# Altium footprint library spin5v1_simple.PcbLib: 34 footprints (part 3 of 4)
Each footprint in its own frame and in the unit in brackets; x right, y up, seen from the top. Pads: shape width x height; smd on the part's side, far side on the other; paste and mask are expansions set on the pad; w line width, h text height; cw(c..) or ccw(c..) is an arc to the next point about the centre after c.
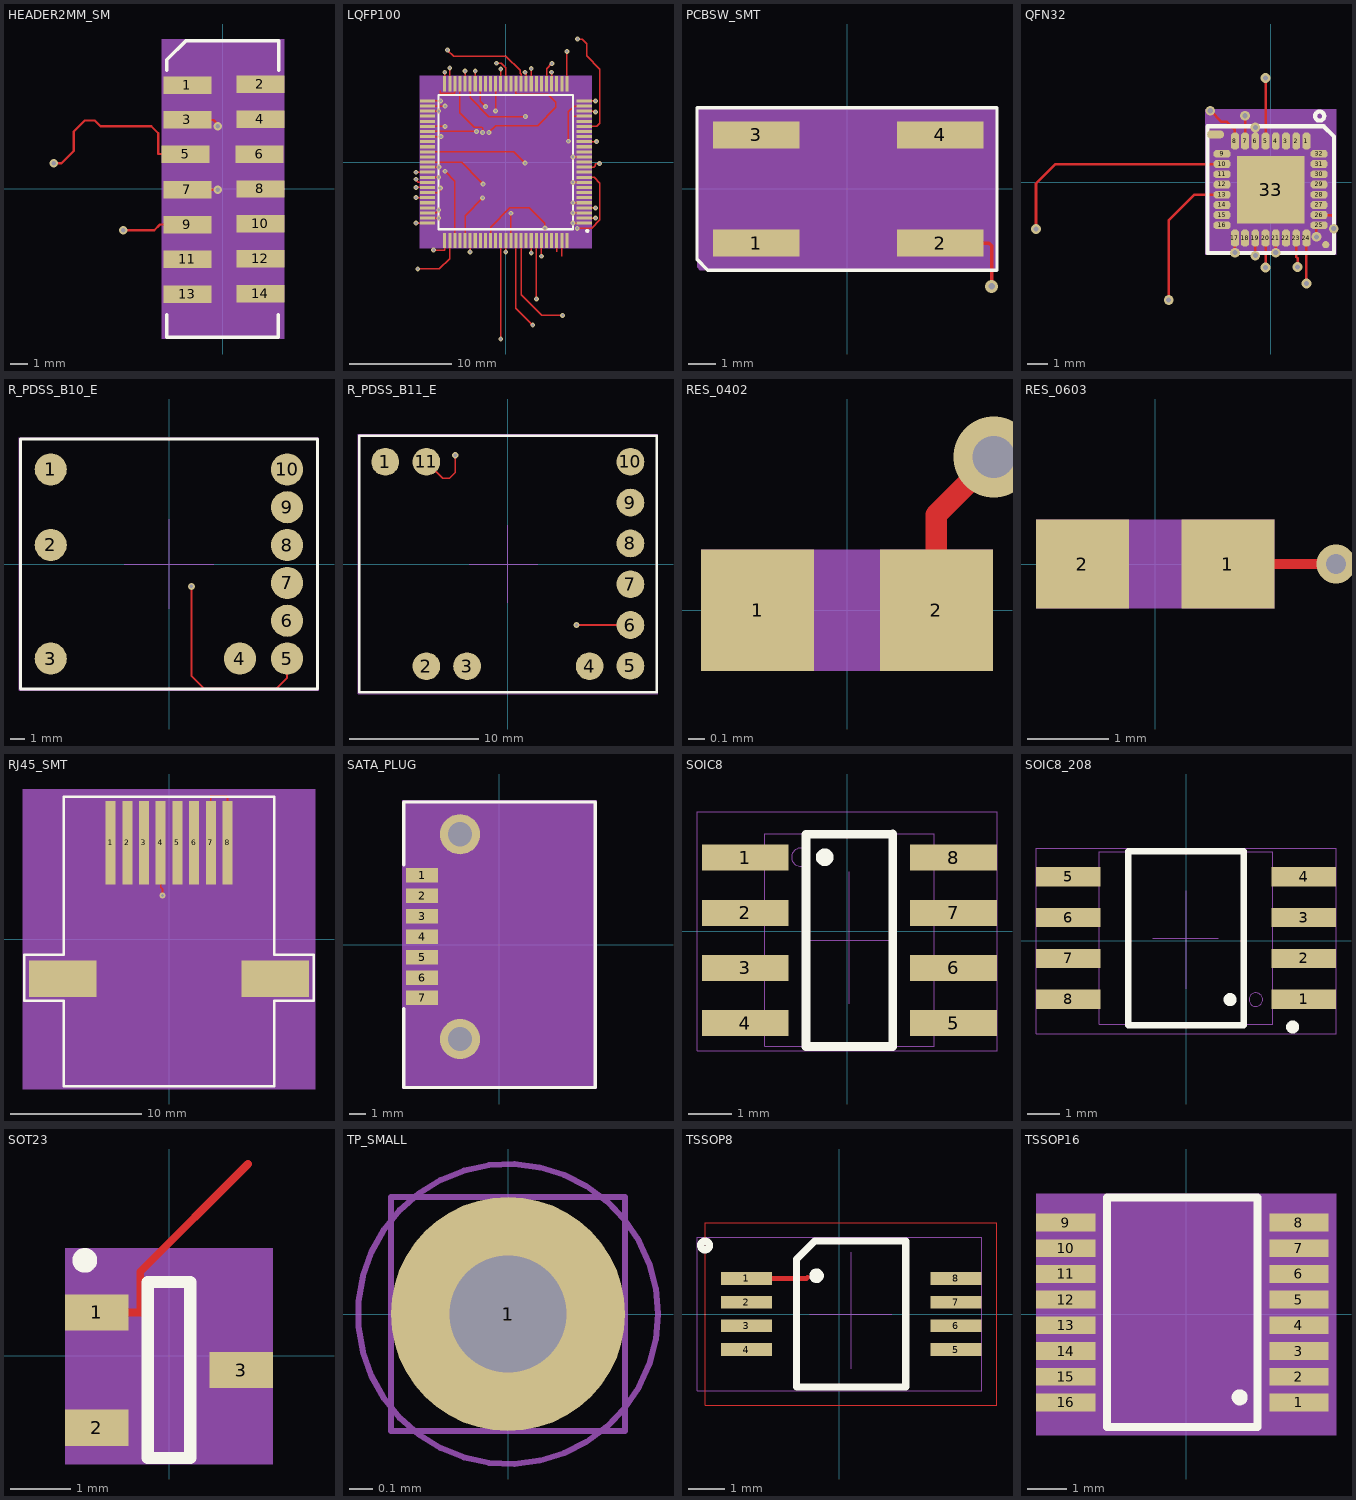
[diagram p2: the footprints below, top view; thin cyan lines are the x and y axes]

## HEADER2MM_SM [mm] "HEADER2MM_SM"
pads (14):
  rect 2.75x1 smd: 1(-2.038,5.96) 2(2.142,6) 3(-2.038,3.96) 4(2.142,4) 5(-2.143,2) 6(2.107,2) 7(-2.038,-0.04) 8(2.142,0) 9(-2.038,-2.04) 10(2.142,-2) 11(-2.038,-4.04) 12(2.142,-4) 13(-2.038,-6.04) 14(2.142,-6)
via -0.296,-0.04 diameter 0.48 hole 0.25
via -9.699,1.48 diameter 0.48 hole 0.25
via -5.709,-2.367 diameter 0.48 hole 0.25
via -0.296,3.6 diameter 0.48 hole 0.25
Top Layer:
  lines w0.127: -9.699,1.48 -9.255,1.48 -8.556,2.179 -8.556,3.296 -7.921,3.931 -7.352,3.931 -7.02,3.599 -4.106,3.599 -3.709,3.202 -3.709,2 -2.143,2 ; -5.709,-2.367 -3.931,-2.367 -3.604,-2.04 -2.038,-2.04 ; -2.038,-0.04 -0.296,-0.04 ; -2.038,3.96 -0.536,3.96 -0.296,3.72 -0.296,3.6
Top Overlay:
  lines w0.2: -3.218,-7.2 -3.218,-8.5 3.182,-8.5 3.182,-7.2 ; -3.218,6.8 -3.218,7.4 -2.118,8.5 3.182,8.5 3.192,8.49 3.192,6.8
Mechanical 9:
  text "7" at -3.378,0 h0.8
  text "5" at -3.378,2 h0.8
  text "9" at -3.378,-2 h0.8
  text "3" at -3.378,4 h0.8
  text "1" at -3.378,6 h0.8
  text "12" at 5.262,-4 h0.8
  text "13" at -2.738,-6 h0.8
  text "11" at -2.738,-4 h0.8
  text "8" at 4.622,0 h0.8
  text "10" at 5.262,-2 h0.8
  text "4" at 4.622,4 h0.8
  text "2" at 4.622,6 h0.8
  text "6" at 4.622,2 h0.8
  text "14" at 5.262,-6 h0.8
Mechanical 13:
  lines w0.025: -3.218,7.45 -2.178,8.49 -2.138,8.49 ; -2.718,0 2.182,0 ; -0.018,-7.7 -0.018,7.6 ; -3.218,-8.5 3.192,-8.5 3.192,8.49 -3.218,8.49 -3.218,-8.5
  text ".Designator" at 0.482,-0.5 h0.8
Mechanical 14:
  region: -3.518,-8.6 3.517,-8.6 3.517,8.6 -3.518,8.6
3D body: height 7.45, standoff -1.15, extent -3.023,-8.325 3.277,8.325

## LQFP100 [mm] "LQFP100"
pads (100):
  rect 1.5x0.3 smd: 1(7.7,-6) 2(7.7,-5.5) 3(7.7,-5) 4(7.7,-4.5) 5(7.7,-4) 6(7.7,-3.5) 7(7.7,-3) 8(7.7,-2.5) 9(7.7,-2) 10(7.7,-1.5) 11(7.7,-1) 12(7.7,-0.5) 13(7.7,0) 14(7.7,0.5) 15(7.7,1) 16(7.7,1.5) 17(7.7,2) 18(7.7,2.5) 19(7.7,3) 20(7.7,3.5) 21(7.7,4) 22(7.7,4.5) 23(7.7,5) 24(7.7,5.5) 25(7.7,6) 51(-7.7,6) 52(-7.7,5.5) 53(-7.7,5) 54(-7.7,4.5) 55(-7.7,4) 56(-7.7,3.5) 57(-7.7,3) 58(-7.7,2.5) 59(-7.7,2) 60(-7.7,1.5) 61(-7.7,1) 62(-7.7,0.5) 63(-7.7,0) 64(-7.7,-0.5) 65(-7.7,-1) 66(-7.7,-1.5) 67(-7.7,-2) 68(-7.7,-2.5) 69(-7.7,-3) 70(-7.7,-3.5) 71(-7.7,-4) 72(-7.7,-4.5) 73(-7.7,-5) 74(-7.7,-5.5) 75(-7.7,-6)
  rect 0.3x1.5 smd: 26(6,7.7) 27(5.5,7.7) 28(5,7.7) 29(4.5,7.7) 30(4,7.7) 31(3.5,7.7) 32(3,7.7) 33(2.5,7.7) 34(2,7.7) 35(1.5,7.7) 36(1,7.7) 37(0.5,7.7) 38(0,7.7) 39(-0.5,7.7) 40(-1,7.7) 41(-1.5,7.7) 42(-2,7.7) 43(-2.5,7.7) 44(-3,7.7) 45(-3.5,7.7) 46(-4,7.7) 47(-4.5,7.7) 48(-5,7.7) 49(-5.5,7.7) 50(-6,7.7) 76(-6,-7.7) 77(-5.5,-7.7) 78(-5,-7.7) 79(-4.5,-7.7) 80(-4,-7.7) 81(-3.5,-7.7) 82(-3,-7.7) 83(-2.5,-7.7) 84(-2,-7.7) 85(-1.5,-7.7) 86(-1,-7.7) 87(-0.5,-7.7) 88(0,-7.7) 89(0.5,-7.7) 90(1,-7.7) 91(1.5,-7.7) 92(2,-7.7) 93(2.5,-7.7) 94(3,-7.7) 95(3.5,-7.7) 96(4,-7.7) 97(4.5,-7.7) 98(5,-7.7) 99(5.5,-7.7) 100(6,-7.7)
via 0.5,-5.033 diameter 0.48 hole 0.25
via 4.5,8.817 diameter 0.48 hole 0.25
via -5.964,3.5 diameter 0.48 hole 0.25
via -8.645,-10.496 diameter 0.48 hole 0.25
via -5.5,9.247 diameter 0.48 hole 0.25
via 1.918,4.471 diameter 0.48 hole 0.25
via -1,5.017 diameter 0.48 hole 0.25
via -1.664,2.902 diameter 0.48 hole 0.25
via -6.583,-4.7 diameter 0.48 hole 0.25
via -6.583,-5.5 diameter 0.48 hole 0.25
via -8.817,-2.5 diameter 0.48 hole 0.25
via -6.578,-0.5 diameter 0.48 hole 0.25
via -8.817,-1 diameter 0.48 hole 0.25
via 1.893,8.817 diameter 0.48 hole 0.25
via -0.5,9.131 diameter 0.48 hole 0.25
via 8.817,4.931 diameter 0.48 hole 0.25
via -0.931,9.703 diameter 0.48 hole 0.25
via -5.732,11 diameter 0.48 hole 0.25
via 3.843,-6.482 diameter 0.48 hole 0.25
via 6,10.872 diameter 0.48 hole 0.25
via -6,8.817 diameter 0.48 hole 0.25
via -6.394,6 diameter 0.48 hole 0.25
via -5.964,5.5 diameter 0.48 hole 0.25
via 7.05,12.082 diameter 0.48 hole 0.25
via -7.091,-8.641 diameter 0.48 hole 0.25
via -5.967,-0.9 diameter 0.48 hole 0.25
via 9.217,-0.147 diameter 0.48 hole 0.25
via 7.014,-6.517 diameter 0.48 hole 0.25
via 2.5,-8.915 diameter 0.48 hole 0.25
via 3,-13.433 diameter 0.48 hole 0.25
via 3.5,-9.258 diameter 0.48 hole 0.25
via 6.583,-5 diameter 0.48 hole 0.25
via 6.583,-6 diameter 0.48 hole 0.25
via 8.817,-5.5 diameter 0.48 hole 0.25
via 6.583,-4 diameter 0.48 hole 0.25
via 1.902,-0.108 diameter 0.48 hole 0.25
via -2.224,-2.169 diameter 0.48 hole 0.25
via 2.651,-16.009 diameter 0.48 hole 0.25
via 5.583,-15.059 diameter 0.48 hole 0.25
via -6.583,-1.5 diameter 0.48 hole 0.25
via -8.817,-1.693 diameter 0.48 hole 0.25
via 6.583,0.5 diameter 0.48 hole 0.25
via 8.817,-4.5 diameter 0.48 hole 0.25
via 8.914,2 diameter 0.48 hole 0.25
via -0.5,-17.379 diameter 0.48 hole 0.25
via 4.521,9.678 diameter 0.48 hole 0.25
via -2.878,3 diameter 0.48 hole 0.25
via -6.364,2.5 diameter 0.48 hole 0.25
via -2.278,-3.529 diameter 0.48 hole 0.25
via -3.5,-8.817 diameter 0.48 hole 0.25
via -6.583,5 diameter 0.48 hole 0.25
via 6.583,-2 diameter 0.48 hole 0.25
via -6.431,-2.569 diameter 0.48 hole 0.25
via -8.817,-3.5 diameter 0.48 hole 0.25
via 8.817,6 diameter 0.48 hole 0.25
via 6.152,2.04 diameter 0.48 hole 0.25
via 2.5,9.171 diameter 0.48 hole 0.25
via 0,-8.817 diameter 0.48 hole 0.25
via -1.982,5.448 diameter 0.48 hole 0.25
via -3,8.931 diameter 0.48 hole 0.25
via -2.271,2.902 diameter 0.48 hole 0.25
via -4,8.931 diameter 0.48 hole 0.25
via -8.817,-6 diameter 0.48 hole 0.25
Top Layer:
  lines w0.127: -8.817,-6 -7.7,-6 ; -8.817,-3.5 -7.7,-3.5 ; -8.817,-2.5 -7.7,-2.5 ; -8.817,-1.693 -8.817,-1.76 -8.577,-2 -7.7,-2 ; -8.817,-1 -7.7,-1 ; -8.645,-10.496 -6.516,-10.496 -5.5,-9.48 -5.5,-7.7 ; -7.7,-5.5 -6.583,-5.5 ; -7.7,-5 -6.823,-5 -6.583,-4.76 -6.583,-4.7 ; -7.7,-3 -6.671,-3 -6.431,-2.76 -6.431,-2.569 ; -7.7,-1.5 -6.583,-1.5 ; -7.7,-0.5 -6.578,-0.5 ; -7.7,0 -4.335,0 -3.446,-0.889 -3.446,-0.947 -2.224,-2.169 ; -7.7,1 0.794,1 1.902,-0.108 ; -7.7,2.5 -6.364,2.5 ; -7.7,3 -2.878,3 ; -7.7,3.5 -5.964,3.5 ; -7.7,5 -6.583,5 ; -7.7,5.5 -5.964,5.5 ; -7.7,6 -6.394,6 ; -7.091,-8.641 -6,-8.641 -6,-7.7 ; -6.431,7.013 -6.431,6.759 -5,6.759 -5,7.7 ; -6,7.7 -6,8.817 ; -5.967,-0.9 -5,-1.867 -5,-7.7 ; -5.732,11 -5.12,10.388 0.017,10.388 1.414,8.991 1.414,8.727 1.5,8.641 1.5,7.7 ; -5.5,7.7 -5.5,9.247 ; -4.5,7.7 -4.5,4.828 -3.103,3.431 -2.342,3.431 -2.271,3.36 -2.271,2.902 ; -4,-7.7 -4,-5.251 -2.278,-3.529 ; -4,7.7 -4,8.931 ; -3.5,-8.817 -3.5,-7.7 ; -3.5,7.7 -3.5,6.313 -1.658,4.471 1.918,4.471 ; -3,7.7 -3,8.931 ; -2.5,7.7 -2.5,5.966 -1.982,5.448 ; -1.664,2.902 -0.979,3.587 3.15,3.587 4.928,5.365 4.928,5.874 4.134,6.668 1.071,6.668 1,6.739 1,7.7 ; -1.5,-7.7 -1.5,-6.407 0.405,-4.502 2.319,-4.502 3.843,-6.026 3.843,-6.482 ; -1,5.017 -1,7.7 ; -0.931,9.703 -0.445,9.703 0,9.258 0,7.7 ; -0.5,-17.379 -0.5,-7.7 ; -0.5,7.7 -0.5,9.131 ; 0,-8.817 0,-7.7 ; 0.5,-7.7 0.5,-5.033 ; 1,-7.7 1,-14.358 2.651,-16.009 ; 1.5,-7.7 1.5,-13.027 3.532,-15.059 5.583,-15.059 ; 1.893,8.817 2,8.71 2,7.7 ; 2.5,-8.915 2.5,-7.7 ; 2.5,7.7 2.5,9.171 ; 3,-13.433 3,-7.7 ; 3.5,-9.258 3.5,-7.7 ; 4,7.7 4,9.157 4.521,9.678 ; 4.5,7.7 4.5,8.817 ; 5,-8.817 5,-7.7 ; 5.5,-9.268 5.5,-7.7 ; 6,7.7 6,10.872 ; 6.152,2.04 6.152,4.928 6.724,5.5 7.7,5.5 ; 6.583,-6 7.7,-6 ; 6.583,-5 7.7,-5 ; 6.583,-4 7.7,-4 ; 6.583,-2 7.7,-2 ; 6.583,0.5 7.7,0.5 ; 6.583,4.5 7.7,4.5 ; 7.014,-6.517 8.422,-6.517 9.248,-5.691 9.248,-2.072 8.676,-1.5 7.7,-1.5 ; 7.05,12.082 7.506,12.082 7.951,11.637 7.951,10.429 9.248,9.132 9.248,3.818 8.93,3.5 7.7,3.5 ; 7.7,-5.5 8.817,-5.5 ; 7.7,-4.5 8.817,-4.5 ; 7.7,-0.5 8.659,-0.5 8.786,-0.373 8.786,-0.147 9.217,-0.147 ; 7.7,2 8.914,2 ; 7.7,5 8.748,5 8.817,4.931 ; 7.7,6 8.817,6
Top Overlay:
  circle w0.2: c8,-6.76 r0.104
  lines w0.2: -6.6,-6.6 6.6,-6.6 6.6,6.6 -6.6,6.6 -6.6,-6.6
  text ".Designator" at 7,-8.5 h1.6
Mechanical 9:
  text "89" at 1.58,-6.5 h0.8
  text "29" at 5.68,6.8 h0.8
  text "56" at -5.42,3.4 h0.8
  text "77" at -4.42,-6.5 h0.8
  text "48" at -3.82,6.8 h0.8
  text "49" at -4.32,6.8 h0.8
  text "45" at -2.32,6.8 h0.8
  text "40" at 0.18,6.8 h0.8
  text "36" at 2.08,6.8 h0.8
  text "73" at -5.42,-5.1 h0.8
  text "74" at -5.42,-5.6 h0.8
  text "79" at -3.42,-6.5 h0.8
  text "68" at -5.42,-2.6 h0.8
  text "64" at -5.42,-0.6 h0.8
  text "65" at -5.42,-1.1 h0.8
  text "34" at 3.18,6.8 h0.8
  text "39" at 0.68,6.8 h0.8
  text "60" at -5.42,1.4 h0.8
  text "23" at 8.08,5.1 h0.8
  text "22" at 8.08,4.6 h0.8
  text "38" at 1.18,6.8 h0.8
  text "37" at 1.68,6.8 h0.8
  text "35" at 2.68,6.8 h0.8
  text "85" at -0.42,-6.5 h0.8
  text "26" at 7.18,6.8 h0.8
  text "27" at 6.68,6.8 h0.8
  text "50" at -4.82,6.8 h0.8
  text "51" at -5.42,5.9 h0.8
  text "52" at -5.42,5.4 h0.8
  text "20" at 8.08,3.6 h0.8
  text "76" at -4.92,-6.5 h0.8
  text "78" at -3.92,-6.5 h0.8
  text "12" at 8.08,-0.4 h0.8
  text "10" at 8.08,-1.4 h0.8
  text "71" at -5.42,-4.1 h0.8
  text "19" at 8.08,3.1 h0.8
  text "42" at -0.82,6.8 h0.8
  text "28" at 6.18,6.8 h0.8
  text "84" at -0.92,-6.5 h0.8
  text "54" at -5.42,4.4 h0.8
  text "96" at 5.08,-6.5 h0.8
  text "21" at 8.08,4.1 h0.8
  text "8" at 7.44,-2.5 h0.8
  text "7" at 7.44,-3 h0.8
  text "6" at 7.44,-3.5 h0.8
  text "93" at 3.58,-6.5 h0.8
  text "94" at 4.08,-6.5 h0.8
  text "95" at 4.58,-6.5 h0.8
  text "3" at 7.44,-5 h0.8
  text "1" at 7.44,-6 h0.8
  text "2" at 7.44,-5.5 h0.8
  text "5" at 7.44,-4 h0.8
  text "61" at -5.42,0.9 h0.8
  text "62" at -5.42,0.4 h0.8
  text "63" at -5.42,-0.1 h0.8
  text "90" at 2.08,-6.5 h0.8
  text "91" at 2.58,-6.5 h0.8
  text "66" at -5.42,-1.6 h0.8
  text "98" at 6.08,-6.5 h0.8
  text "99" at 6.58,-6.5 h0.8
  text "67" at -5.42,-2.1 h0.8
  text "14" at 8.08,0.6 h0.8
  text "4" at 7.44,-4.5 h0.8
  text "17" at 8.08,2.1 h0.8
  text "86" at 0.08,-6.5 h0.8
  text "87" at 0.58,-6.5 h0.8
  text "30" at 5.18,6.8 h0.8
  text "57" at -5.42,2.9 h0.8
  text "58" at -5.42,2.4 h0.8
  text "59" at -5.42,1.9 h0.8
  text "80" at -2.92,-6.5 h0.8
  text "81" at -2.42,-6.5 h0.8
  text "53" at -5.42,4.9 h0.8
  text "9" at 7.44,-2 h0.8
  text "69" at -5.42,-3.1 h0.8
  text "70" at -5.42,-3.6 h0.8
  text "25" at 8.08,6.1 h0.8
  text "24" at 8.08,5.6 h0.8
  text "11" at 8.08,-0.9 h0.8
  text "97" at 5.58,-6.5 h0.8
  text "72" at -5.42,-4.6 h0.8
  text "15" at 8.08,1.2 h0.8
  text "31" at 4.68,6.8 h0.8
  text "41" at -0.32,6.8 h0.8
  text "55" at -5.42,3.9 h0.8
  text "83" at -1.42,-6.5 h0.8
  text "16" at 8.08,1.6 h0.8
  text "33" at 3.68,6.8 h0.8
  text "32" at 4.18,6.8 h0.8
  text "92" at 3.08,-6.5 h0.8
  text "43" at -1.32,6.8 h0.8
  text "88" at 1.08,-6.5 h0.8
  text "82" at -1.92,-6.5 h0.8
  text "44" at -1.82,6.8 h0.8
  text "47" at -3.32,6.8 h0.8
  text "46" at -2.82,6.8 h0.8
  text "75" at -5.42,-6.1 h0.8
  text "18" at 8.08,2.6 h0.8
  text "100" at 7.72,-6.5 h0.8
  text "13" at 8.08,0.1 h0.8
Mechanical 10:
  circle w0.025: c6.3,-6.3 r0.417
  lines w0.025: -1.06,0 1,0 ; 0,-0.97 0,1.05 ; -7,-7 7,-7 7,7 -7,7 -7,-7
Mechanical 11:
  region: 8.45,8.45 8.45,-8.45 -8.45,-8.45 -8.45,8.45
Mechanical 12:
  text "U69" at 7,-8.5 h1.6
3D body: height 1.6, standoff 0, extent -8,-8 8,8

## PCBSW_SMT [mm] "PCBSW_SMT"
pads (4):
  rect 3.2x1 smd: 1(-3.35,-2) 2(3.45,-2) 3(-3.35,2) 4(3.45,2)
via 5.354,-3.6 diameter 0.48 hole 0.25
Top Layer:
  lines w0.127: 3.45,-2 5.254,-2 5.354,-2.1 5.354,-3.6
Top Overlay:
  lines w0.127: -5.55,-2.6 -5.15,-3 5.55,-3 5.55,3 -5.25,3 -5.55,3 -5.55,-2.6
Mechanical 9:
  text "2" at 3.958,-1 h0.64
  text "1" at -2.842,-1.1 h0.64
  text "4" at 3.958,1.4 h0.64
  text "3" at -2.842,1.4 h0.64
Mechanical 13:
  lines w0.025: -1.65,0 1.75,0 ; 0.05,-2.1 0.05,2 ; -5.55,-2.6 -5.15,-3 5.55,-3 5.55,3 -5.55,3 -5.55,-2.6
  text ".Designator" at -1.95,-1 h0.8
Mechanical 14:
  region: -5.55,3 5.55,3 5.55,-2.9 5.45,-3 -5.45,-3 -5.55,-2.9
3D body: height 5.53, standoff 0, extent -4.938,-3.172 5.096,3.172

## QFN32 [mil] "QFN32"
pads (35):
  oct 15x33 smd: 1(68.9,79.25) 2(49.21,79.25) 3(29.53,79.25) 4(9.84,79.25) 5(-9.84,79.25) 6(-29.53,79.25) 7(-49.21,79.25) 8(-68.9,79.25) 17(-68.9,-107.76) 18(-49.21,-107.76) 19(-29.53,-107.76) 20(-9.84,-107.76) 21(9.84,-107.76) 22(29.53,-107.76) 23(49.21,-107.76) 24(68.9,-107.76)
  oct 33x15 smd: 9(-93.5,54.65) 10(-93.5,34.96) 11(-93.5,15.28) 12(-93.5,-4.41) 13(-93.5,-24.09) 14(-93.5,-43.78) 15(-93.5,-63.46) 16(-93.5,-83.15) 25(93.5,-83.15) 26(93.5,-63.46) 27(93.5,-43.78) 28(93.5,-24.09) 29(93.5,-4.41) 30(93.5,15.28) 31(93.5,34.96) 32(93.5,54.65)
  rect 130x130 smd: 33(0,-14.25)
  oval 33x15 smd: " "(-106.3,92.05)
  round 13.78 smd: " "(106.3,-120.55)
via 9.84,-135.98 diameter 18.9 hole 9.84
via 88.27,-105.43 diameter 18.9 hole 9.84
via 68.9,-195.2 diameter 18.9 hole 9.84
via 51.93,-163.7 diameter 18.9 hole 9.84
via -9.84,-164.37 diameter 18.9 hole 9.84
via -196.73,-227.13 diameter 18.9 hole 9.84
via 121.73,-89.69 diameter 18.9 hole 9.84
via -116.46,137.83 diameter 18.9 hole 9.84
via -452.64,-90.43 diameter 18.9 hole 9.84
via -49.21,128.15 diameter 18.9 hole 9.84
via -29.53,-141.73 diameter 18.9 hole 9.84
via -68.9,-135.98 diameter 18.9 hole 9.84
via -29.53,105.67 diameter 18.9 hole 9.84
via -9.84,200.83 diameter 18.9 hole 9.84
Top Layer:
  lines w5: -452.64,-90.43 -452.64,-2.56 -415.12,34.96 -93.5,34.96 ; -196.73,-227.13 -196.73,-210.16 -196.69,-210.12 -196.69,-74.09 -146.69,-24.09 -93.5,-24.09 ; -116.46,137.83 -95.08,116.46 -84.53,116.46 -68.9,100.83 -68.9,79.25 ; -68.9,-135.98 -68.9,-107.76 ; -49.21,79.25 -49.21,128.15 ; -29.53,-141.73 -29.53,-107.76 ; -29.53,79.25 -29.53,105.67 ; -9.84,-164.37 -9.84,-107.76 ; -9.84,79.25 -9.84,200.83 ; 9.84,-135.98 9.84,-107.76 ; 49.21,-107.76 49.21,-144.02 51.93,-146.73 51.93,-163.7 ; 68.9,-195.2 68.9,-107.76 ; 88.27,-105.43 88.27,-83.15 93.5,-83.15 ; 93.5,-63.46 116.73,-63.46 121.73,-68.46 121.73,-89.69
Top Overlay:
  circle w7.99: c94.49,127.48 r8.82
  lines w7.99: -122.05,-136.3 122.05,-136.3 122.05,64.49 122.05,88.11 102.36,107.8 -122.05,107.8 -122.05,-136.3
Mechanical 9:
  text "3" at 61.22,108.98 h78.74
  text "2" at 80.71,108.39 h78.74
  text "29" at 249.21,4.45 h78.74
  text "28" at 249.21,-14.65 h78.74
  text "21" at 72.05,-143.78 h78.74
  text "25" at 250.39,-75.67 h78.74
  text "24" at 131.1,-143.78 h78.74
  text "23" at 111.42,-143.78 h78.74
  text "22" at 91.73,-143.78 h78.74
  text "20" at 52.36,-143.78 h78.74
  text "31" at 248.23,43.62 h78.74
  text "30" at 248.23,24.53 h78.74
  text "13" at -10.24,-22.52 h78.74
  text "26" at 250.2,-55.39 h78.74
  text "8" at -37.2,108.39 h78.74
  text "9" at -73.23,56.22 h78.74
  text "10" at -10.24,36.54 h78.74
  text "11" at -10.24,16.85 h78.74
  text "7" at -17.52,108.39 h78.74
  text "19" at 32.68,-143.78 h78.74
  text "18" at 12.99,-143.78 h78.74
  text "16" at -10.24,-81.57 h78.74
  text "17" at -6.69,-143.78 h78.74
  text "6" at 2.17,108.39 h78.74
  text "27" at 249.8,-34.53 h78.74
  text "1" at 100.59,108.58 h78.74
  text "12" at -10.24,-2.83 h78.74
  text "32" at 248.62,57.2 h78.74
  text "33" at 125.98,-14.25 h78.74
  text "5" at 21.85,108.39 h78.74
  text "4" at 41.54,109.17 h78.74
  text "14" at -10.24,-42.2 h78.74
  text "15" at -10.24,-61.89 h78.74
Mechanical 10:
  lines w1: -27.76,-14.25 24.21,-14.25 ; 0,-40.24 0,8.19 ; -122.05,-136.3 122.05,-136.3 122.05,88.11 102.36,107.8 -122.05,107.8 -122.05,-136.3
  text ".Designator" at 39.37,5.43 h31.5
Mechanical 11:
  region: 126.06,140.28 126.06,-140.31 -126.06,-140.31 -126.06,140.28
Mechanical 12:
  text "U72" at 137.8,143.23 h62.99
3D body: height 29.53, standoff 0, extent -98.42,-112.67 98.43,84.18

## R_PDSS_B10_E [mm] "R_PDSS_B10_E"
pads (10):
  round 2.16 smd: 1(-7.94,6.35) 2(-7.94,1.28) 3(-7.94,-6.35) 4(4.76,-6.35) 5(7.93,-6.35) 6(7.93,-3.81) 7(7.93,-1.27) 8(7.93,1.27) 9(7.93,3.81) 10(7.93,6.35)
via 1.5,-1.5 diameter 0.48 hole 0.25
Top Layer:
  lines w0.127: 1.5,-1.5 1.5,-7.5 2.363,-8.363 7.188,-8.363 7.93,-7.621 7.93,-6.35
Top Overlay:
  lines w0.2: -9.97,-8.38 -9.97,8.38 9.97,8.38 9.97,-8.38 -9.97,-8.38
  text ".Designator" at -10.16,9.017 h1.6
Mechanical 9:
  text "7" at 6.152,-1.27 h0.64
  text "8" at 6.152,1.27 h0.64
  text "5" at 6.152,-6.35 h0.64
  text "10" at 5.644,6.35 h0.64
  text "1" at -9.718,6.35 h0.64
  text "2" at -9.718,1.28 h0.64
  text "9" at 6.152,3.81 h0.64
  text "4" at 2.982,-6.35 h0.64
  text "3" at -9.718,-6.35 h0.64
  text "6" at 6.152,-3.81 h0.64
Mechanical 13:
  lines w0.025: -3,0 3,0 ; 0,-3 0,3 ; -9.97,-8.38 -9.97,8.38 9.97,8.38 9.97,-8.38 -9.97,-8.38
Mechanical 14:
  lines w0.025: -10.07,-8.48 10.07,-8.48 10.07,8.48 -10.07,8.48 -10.07,-8.48
3D body: height 8.18, standoff -3.55, extent -8.521,-6.585 4.179,8.655

## R_PDSS_B11_E [mm] "R_PDSS_B11_E"
pads (11):
  round 2.16 smd: 1(-9.535,7.94) 2(-6.345,-7.94) 3(-3.175,-7.94) 4(6.345,-7.94) 5(9.515,-7.91) 6(9.515,-4.74) 7(9.515,-1.57) 8(9.515,1.6) 9(9.515,4.77) 10(9.515,7.94) 11(-6.345,7.94)
via -4.101,8.45 diameter 0.48 hole 0.25
via 5.333,-4.739 diameter 0.48 hole 0.25
Top Layer:
  lines w0.127: -6.345,7.94 -5.074,6.669 -4.546,6.669 -4.101,7.114 -4.101,8.45 ; 5.333,-4.739 8.243,-4.739 8.244,-4.74 9.515,-4.74
Top Overlay:
  lines w0.2: -11.555,-9.97 11.555,-9.97 11.555,9.97 -11.555,9.97 -11.555,-9.97
Mechanical 9:
  text "4" at 4.567,-7.94 h0.64
  text "3" at -4.953,-7.94 h0.64
  text "11" at -5.161,7.938 h0.64
  text "5" at 7.737,-7.91 h0.64
  text "10" at 7.229,7.94 h0.64
  text "2" at -8.123,-7.94 h0.64
  text "1" at -11.313,7.94 h0.64
  text "7" at 7.737,-1.57 h0.64
  text "9" at 7.737,4.77 h0.64
  text "8" at 7.737,1.6 h0.64
  text "6" at 7.737,-4.74 h0.64
Mechanical 13:
  lines w0.025: -3,0 2.3,0 ; 0,-3 0,3 ; -11.555,-9.97 11.555,-9.97 11.555,9.97 -11.555,9.97 -11.555,-9.97
  text ".Designator" at -11,11 h0.8
Mechanical 14:
  lines w0.025: -11.655,-10.07 -11.655,10.07 11.655,10.07 11.655,-10.07 -11.655,-10.07
3D body: height 8.18, standoff -3.55, extent -10.922,-5.787 1.778,9.453

## RES_0402 [mm] "RES_0402"
pads (2):
  rect 0.67x0.72 smd: 1(-0.53,0) 2(0.53,0)
via 0.871,0.908 diameter 0.48 hole 0.25
Top Layer:
  lines w0.127: 0.53,0 0.53,0.567 0.871,0.908
Mechanical 9:
  text "2" at 0.53,-1.11 h0.8
  text "1" at -0.53,-1.07 h0.8
Mechanical 13:
  lines w0.025: -0.5,-0.25 0.5,-0.25 0.5,0.25 -0.5,0.25 -0.5,-0.25
Mechanical 14:
  region: -0.865,-0.36 0.865,-0.36 0.865,0.36 -0.865,0.36

## RES_0603 [mm] "RES_0603"
pads (2):
  rect 1.15x1.1 smd: 1(0.9,0) 2(-0.9,0)
via 2.239,0 diameter 0.48 hole 0.25
Top Layer:
  lines w0.127: 0.9,0 2.239,0
Mechanical 9:
  text "2" at -0.26,0.65 h0.8
  text "1" at 1.54,0.62 h0.8
Mechanical 10:
  lines w0.025: -0.25,0 0.24,0 ; 0,-0.28 0,0.28 ; -0.8,-0.4 0.8,-0.4 0.8,0.4 -0.8,0.4 -0.8,-0.4
  text ".Designator" at -2,0.25 h0.8
Mechanical 11:
  region: 1.475,0.55 1.475,-0.55 -1.475,-0.55 -1.475,0.55
Mechanical 12:
  text "R192" at -7.984,1.666 h1.6

## RJ45_SMT [mm] "RJ45_SMT"
pads (10):
  rect 0.76x6.35 smd: 1(-4.44,7.31) 2(-3.17,7.31) 3(-1.9,7.31) 4(-0.63,7.31) 5(0.64,7.31) 6(1.91,7.31) 7(3.18,7.31) 8(4.45,7.31)
  rect 5.15x2.8 smd: " "(-8.08,-3.02) " "(8.08,-3.02)
via -0.5,3.307 diameter 0.48 hole 0.25
Top Layer:
  lines w0.127: -0.63,7.31 -0.63,3.944 -0.5,3.814 -0.5,3.307 ; 3.18,7.31 3.18,10.852 4.323,10.852 4.45,10.725 4.45,7.31
Top Overlay:
  lines w0.2: -11,-4.69 -11,-1.19 -8,-1.19 -8,10.81 8,10.81 8,-1.19 11,-1.19 11,-4.69 8,-4.69 8,-11.19 -8,-11.19 -8,-4.69 -11,-4.69
  text ".Designator" at 12,6.31 h1.6
Mechanical 9:
  text "7" at 3.18,10.118 h0.64
  text "8" at 4.46,10.178 h0.64
  text "5" at 0.65,10.138 h0.64
  text "4" at -0.6,10.138 h0.64
  text "1" at -4.43,10.058 h0.64
  text "2" at -3.17,10.058 h0.64
  text "3" at -1.9,10.118 h0.64
  text "6" at 1.91,10.138 h0.64
Mechanical 13:
  lines w0.025: -10.67,-4.42 10.67,-4.42 ; -7.62,7.2 7.62,7.2 ; -3,-2.69 3,-2.69 ; 0,-11.4 0,11.4 ; -7.62,-10.9 -7.62,10.48 7.62,10.48 7.62,-10.9 -7.62,-10.9
Mechanical 14:
  region: -11.1,-11.4 11.1,-11.4 11.1,11.4 -11.1,11.4
3D body: height 11.68, standoff -0.33, extent -10.16,-8.572 10.16,9.817

## SATA_PLUG [mm] "SATA_PLUG"
pads (9):
  rect 2x0.9 smd: 1(-4.81,4.31) 2(-4.81,3.04) 3(-4.81,1.77) 4(-4.81,0.5) 5(-4.81,-0.77) 6(-4.81,-2.04) 7(-4.81,-3.31)
  round 2.5 hole 1.5: " "(-2.45,-5.87) " "(-2.45,6.87)
Top Overlay:
  lines w0.2: -5.95,-3.98 -5.95,-8.87 5.95,-8.87 5.95,8.87 -5.95,8.87 -5.95,4.98
Mechanical 9:
  text "5" at -3.17,-0.79 h0.8
  text "6" at -3.12,-2.02 h0.8
  text "2" at -3.07,3.08 h0.8
  text "3" at -2.99,1.78 h0.8
  text "4" at -3.17,0.51 h0.8
  text "7" at -3.14,-3.31 h0.8
  text "1" at -3.12,4.32 h0.8
Mechanical 13:
  lines w0.025: -2.31,0 2.23,0 ; 0,-1.74 0,2.11 ; -5.95,-8.87 5.95,-8.87 5.95,8.87 -5.95,8.87 -5.95,-8.87
  text ".Designator" at 0,0 h0.8
Mechanical 14:
  region: -6.05,-8.97 6.05,-8.97 6.05,8.97 -6.05,8.97
Multi-Layer:
  pour cut-out: -4.988,-8.255 7.112,-8.255 7.112,9.685 -4.988,9.685
  pour cut-out: -3.8,5.5 -1.1,5.5 -1.1,8.2 -3.8,8.2
  pour cut-out: -3.8,-7.2 -1.1,-7.2 -1.1,-4.5 -3.8,-4.5
3D body: height 5.85, standoff -2.6, extent -5.591,-8.777 5.969,8.763

## SOIC8 [mm] "SOIC8"
pads (8):
  rect 2x0.6 smd: 1(-2.344,1.694) 2(-2.344,0.424) 3(-2.344,-0.846) 4(-2.344,-2.116) 5(2.456,-2.116) 6(2.456,-0.846) 7(2.456,0.424) 8(2.456,1.694)
Top Overlay:
  circle w0.2: c-0.514,1.704 r0.104
  lines w0.2: -0.944,-2.656 1.056,-2.656 1.056,2.244 1.046,2.234 -0.944,2.234 -0.944,-2.656
Mechanical 9:
  text "3" at -4.184,-0.806 h0.8
  text "2" at -4.184,0.394 h0.8
  text "1" at -4.284,1.694 h0.8
  text "4" at -4.184,-2.106 h0.8
  text "7" at 2.916,0.494 h0.8
  text "6" at 3.216,-0.806 h0.8
  text "5" at 3.216,-2.106 h0.8
  text "8" at 3.316,1.694 h0.8
Mechanical 13:
  circle w0.025: c-1.064,1.704 r0.211
  lines w0.025: -0.944,-0.206 1.086,-0.206 ; 0.056,-1.676 0.056,1.364 ; -1.894,-2.656 2.006,-2.656 2.006,2.244 -1.894,2.244 -1.894,-2.656
  text ".Designator" at -0.694,2.544 h0.8
Mechanical 14:
  lines w0.025: -3.456,-2.756 3.456,-2.756 3.456,2.756 -3.456,2.756 -3.456,-2.756
3D body: height 1.75, standoff 0, extent -3,-2.704 3,2.196

## SOIC8_208 [mm] "SOIC8_208"
pads (8):
  rect 2x0.6 smd: 1(3.66,-1.819) 2(3.66,-0.549) 3(3.66,0.721) 4(3.66,1.991) 5(-3.66,1.991) 6(-3.66,0.721) 7(-3.66,-0.549) 8(-3.66,-1.819)
Top Overlay:
  circle w0.2: c3.31,-2.679 r0.102
  circle w0.2: c1.37,-1.829 r0.104
  lines w0.2: -1.8,-2.619 1.8,-2.619 1.8,2.781 -1.8,2.781 -1.8,-2.619
Mechanical 9:
  text "2" at 4.86,-0.279 h0.3
  text "5" at -5.06,2.221 h0.3
  text "3" at 4.86,0.921 h0.3
  text "7" at -4.76,-0.379 h0.3
  text "8" at -5.16,-1.579 h0.3
  text "6" at -5.06,0.921 h0.3
  text "1" at 4.96,-1.579 h0.3
  text "4" at 4.86,2.221 h0.3
Mechanical 10:
  circle w0.025: c2.17,-1.829 r0.211
  lines w0.025: -1.03,0.081 1,0.081 ; 0,-1.489 0,1.551 ; -2.7,-2.599 2.7,-2.599 2.7,2.761 -2.7,2.761 -2.7,-2.599
  text ".Designator" at 0.75,-1.419 h0.8
Mechanical 11:
  lines w0.025: -4.66,-2.881 4.66,-2.881 4.66,2.881 -4.66,2.881 -4.66,-2.881
Mechanical 12:
  text "U77" at 2.89,-2.399 h0.3
3D body: height 1.75, standoff 0, extent -3,-2.323 3,2.577

## SOT23 [mm] "SOT23"
pads (3):
  rect 1.05x0.6 smd: 1(-1.19,0.718) 2(-1.19,-1.182) 3(1.19,-0.232)
Top Layer:
  lines w0.127: -1.19,0.718 -0.474,0.718 -0.474,1.39 1.304,3.168
Top Overlay:
  circle w0.2: c-1.39,1.578 r0.104
  lines w0.2: -0.35,-1.682 0.35,-1.682 0.35,1.218 -0.35,1.218 -0.35,-1.682
Mechanical 9:
  text "2" at -0.55,-1.582 h0.8
  text "1" at -0.55,0.338 h0.8
  text "3" at 1.83,-0.612 h0.8
Mechanical 13:
  lines w0.025: -0.7,1.028 -0.5,1.228 ; -0.59,-0.232 0.43,-0.232 ; 0,-0.782 0,0.278 ; -0.7,-1.692 -0.7,1.228 0.7,1.228 0.7,-1.692 -0.7,-1.692
Mechanical 14:
  region: -1.715,-1.782 1.715,-1.782 1.715,1.782 -1.715,1.782
3D body: height 1.3, standoff 0, extent -1.4,-1.704 1.4,1.196

## TP_SMALL [mm] "TP_SMALL"
pads (1):
  round 1 hole 0.5: 1(0,0)
Mechanical 9:
  text "1" at -1.778,0 h0.64
Mechanical 13:
  circle w0.025: c0,0 r0.64
  text ".Designator" at -3,-0.5 h0.8
Mechanical 14:
  lines w0.025: -0.5,-0.5 0.5,-0.5 0.5,0.5 -0.5,0.5 -0.5,-0.5

## TSSOP8 [mm] "TSSOP8"
pads (8):
  rect 1.4x0.35 smd: 1(-2.547,0.975) 2(-2.547,0.325) 3(-2.547,-0.325) 4(-2.547,-0.975) 5(3.203,-0.975) 6(3.203,-0.325) 7(3.203,0.325) 8(3.203,0.975)
Top Layer:
  lines w0.025: -3.672,-2.5 4.328,-2.5 4.328,2.5 -3.672,2.5 -3.672,-2.5
  lines w0.127: -2.547,0.975 -0.897,0.975 -0.872,1
Top Overlay:
  circle w0.2: c-0.622,1.05 r0.1
  circle w0.2: c-3.682,1.88 r0.12
  lines w0.2: -1.172,-2 1.828,-2 1.828,2 -0.672,2 -1.172,1.5 -1.172,-2
Mechanical 9:
  text "8" at 3.608,0.98 h0.8
  text "4" at -3.982,-0.97 h0.8
  text "6" at 3.608,-0.32 h0.8
  text "7" at 3.618,0.32 h0.8
  text "3" at -3.992,-0.32 h0.8
  text "1" at -3.982,0.98 h0.8
  text "2" at -3.972,0.32 h0.8
  text "5" at 3.598,-0.98 h0.8
Mechanical 13:
  lines w0.025: -0.812,0 1.438,0 ; 0.328,-1.5 0.328,1.69 ; -1.172,-2 1.828,-2 1.828,2 -0.672,2 -1.172,1.5 -1.172,-2
  text ".Designator" at -0.172,-0.5 h0.8
Mechanical 14:
  lines w0.025: -3.902,-2.1 3.903,-2.1 3.903,2.1 -3.902,2.1 -3.902,-2.1
3D body: height 1.2, standoff 0, extent -2.847,-1.476 3.609,1.524

## TSSOP16 [mm] "TSSOP16"
pads (16):
  rect 1.5x0.45 smd: 1(2.857,-2.227) 2(2.857,-1.577) 3(2.857,-0.927) 4(2.857,-0.277) 5(2.857,0.373) 6(2.857,1.023) 7(2.857,1.673) 8(2.857,2.323) 9(-3.043,2.323) 10(-3.043,1.673) 11(-3.043,1.023) 12(-3.043,0.373) 13(-3.043,-0.277) 14(-3.043,-0.927) 15(-3.043,-1.577) 16(-3.043,-2.227)
Top Overlay:
  circle w0.2: c1.357,-2.097 r0.102
  lines w0.2: 1.807,-2.547 1.807,-2.847 ; 1.807,-2.847 1.807,2.953 -1.993,2.953 -1.993,-2.847 1.807,-2.847
Mechanical 9:
  text "9" at -4.143,0.243 h2.7
  text "10" at -4.143,-2.597 h2.7
  text "8" at 3.707,0.243 h2.7
  text "3" at 3.747,-2.927 h2.7
  text "2" at 3.707,-3.637 h2.7
  text "15" at -4.113,-5.777 h2.7
  text "14" at -4.133,-5.107 h2.7
  text "4" at 3.697,-2.327 h2.7
  text "5" at 3.677,-1.607 h2.7
  text "16" at -4.133,-6.417 h2.7
  text "1" at 3.707,-4.267 h2.7
  text "6" at 3.687,-0.977 h2.7
  text "7" at 3.757,-0.337 h2.7
  text "11" at -4.153,-3.197 h2.7
  text "12" at -4.123,-3.827 h2.7
  text "13" at -4.123,-4.477 h2.7
Mechanical 10:
  lines w0.025: -0.373,0.053 0.207,0.053 ; -0.093,-0.337 -0.093,0.503 ; 1.207,-2.847 1.807,-2.097 ; -1.993,-2.847 -1.993,2.953 1.807,2.953 1.807,-2.497 1.807,-2.847 -1.993,-2.847
  text ".Designator" at 0.907,-0.447 h0.8
Mechanical 11:
  region: 3.793,3.053 3.793,-3.053 -3.793,-3.053 -3.793,3.053
Mechanical 12:
  text "U75" at -4.593,-2.447 h1.6
3D body: height 1.2, standoff 0, extent -3.355,-2.5 3.101,2.5